# Altium footprint library CONN_A-6373-02A_MOL.PcbLib: 1 footprints
Each footprint in its own frame and in the unit in brackets; x right, y up, seen from the top. Pads: shape width x height; smd on the part's side, far side on the other; paste and mask are expansions set on the pad; w line width, h text height; cw(c..) or ccw(c..) is an arc to the next point about the centre after c.
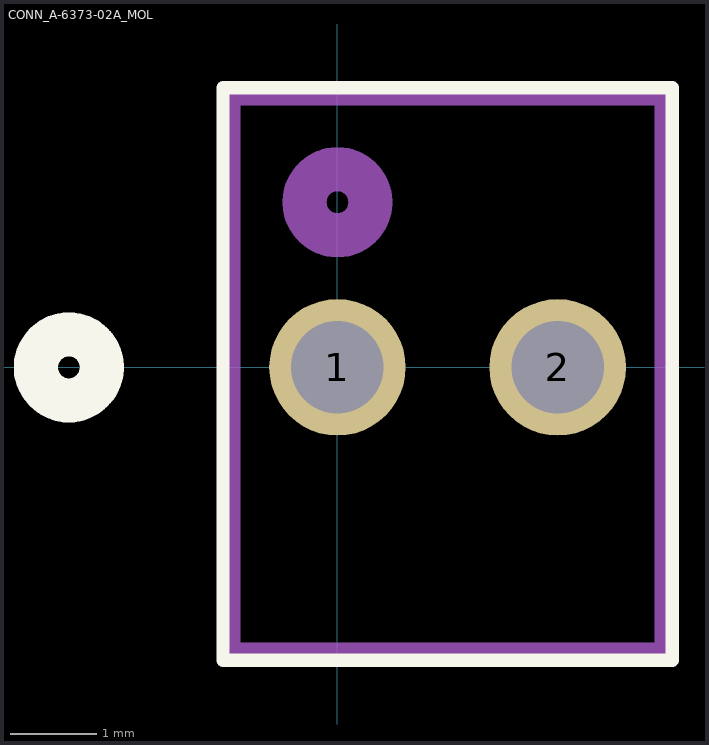
[diagram p0: the footprint, top view; thin cyan lines are the x and y axes]

## CONN_A-6373-02A_MOL [mil]
pads (2):
  round 62 hole 42: 1(0,0) 2(100,0)
Top Overlay:
  lines w6: -52,-133 -52,127 152,127 152,-133 -52,-133
  lines w20: -137,0 cw(c-122,0) -107,0 cw(c-122,0) -137,0
Bottom Overlay:
  lines w20: -137,0 cw(c-122,0) -107,0 cw(c-122,0) -137,0
Assembly Top:
  lines w6: -47,-128 -47,122 147,122 147,-128 -47,-128
  lines w20: -15,75 cw(c0,75) 15,75 cw(c0,75) -15,75
3D body "22232021.STEP": height 420.08, standoff -140.16, extent -37.05,-135 157.05,115